# EAGLE library part AD523X (library digital-jqi)
10-bit digital potentiometer, Analog Devices
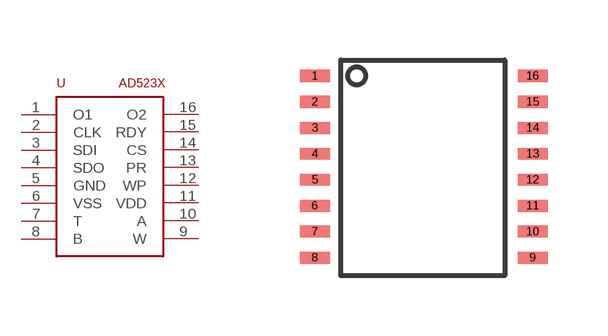
[diagram p1: symbol with the pads of TSSOP16; footprint TSSOP16]

Designator prefix -

## AD523X  [TSSOP16]
1  O1
2  CLK
3  SDI
4  SDO
5  GND
6  VSS
7  T
8  B
9  W
10  A
11  VDD
12  WP
13  PR
14  CS
15  RDY
16  O2

## Footprint TSSOP16 (pad centres in mm)
smd 0.75 x 0.3: 1 -0.62,5.2; 2 -0.62,4.55; 3 -0.62,3.9; 4 -0.62,3.25; 5 -0.62,2.6; 6 -0.62,1.95; 7 -0.62,1.3; 8 -0.62,0.65; 9 4.83,0.65; 10 4.83,1.3; 11 4.83,1.95; 12 4.83,2.6; 13 4.83,3.25; 14 4.83,3.9; 15 4.83,4.55; 16 4.83,5.2